# Altium schematic symbol library Schematic Components.SchLib: 1 symbol
Pins are listed as number, name and electrical type; pins without a type are passive.

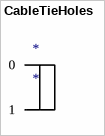
[diagram p0: symbol CableTieHoles]

## CableTieHoles
designator *
pins: 0, 1